# EAGLE library part ARDUINO_SHEILD_EXT (library ARDUINO_SHEILD_ext)
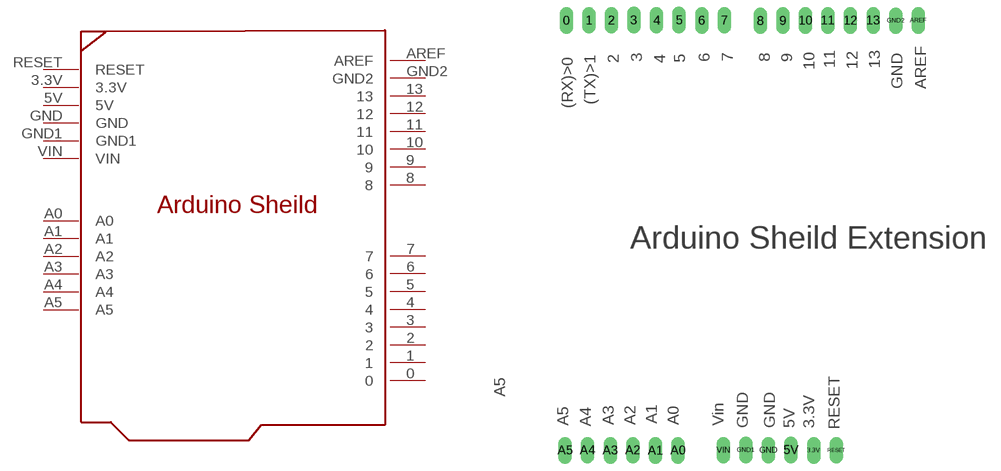
[diagram p0: symbol with the pads of ARDUINO_SHEILD; footprint ARDUINO_SHEILD]

Designator prefix ARDUINO_EXT

## ARDUINO_SHEILD_EXT  [ARDUINO_SHEILD]
0  0
1  1
2  2
3  3
3.3V  3.3V
4  4
5  5
5V  5V
6  6
7  7
8  8
9  9
10  10
11  11
12  12
13  13
A0  A0
A1  A1
A2  A2
A3  A3
A4  A4
A5  A5
AREF  AREF
GND  GND
GND1  GND1
GND2  GND2
RESET  RESET
VIN  VIN

## Footprint ARDUINO_SHEILD (pad centres in mm)
drill 1 long: 0 -3.66,51.62; 1 -1.12,51.64; 2 1.42,51.64; 3 3.92,51.66; 3.3V 24.14,3.32; 4 6.48,51.64; 5 9.02,51.66; 5V 21.6,3.36; 6 11.56,51.62; 7 14.1,51.64; 8 18.14,51.58; 9 20.68,51.6; 10 23.22,51.6; 11 25.72,51.62; 12 28.28,51.6; 13 30.82,51.62; A0 8.9,3.32; A1 6.36,3.3; A2 3.82,3.34; A3 1.28,3.32; A4 -1.28,3.34; A5 -3.78,3.32; AREF 35.9,51.6; GND 19.06,3.34; GND1 16.5,3.36; GND2 33.36,51.58; RESET 26.68,3.34; VIN 14,3.34